# Altium footprint library PCB1.PcbLib: 24 footprints (part 1 of 2)
Each footprint in its own frame and in the unit in brackets; x right, y up, seen from the top. Pads: shape width x height; smd on the part's side, far side on the other; paste and mask are expansions set on the pad; w line width, h text height; cw(c..) or ccw(c..) is an arc to the next point about the centre after c.
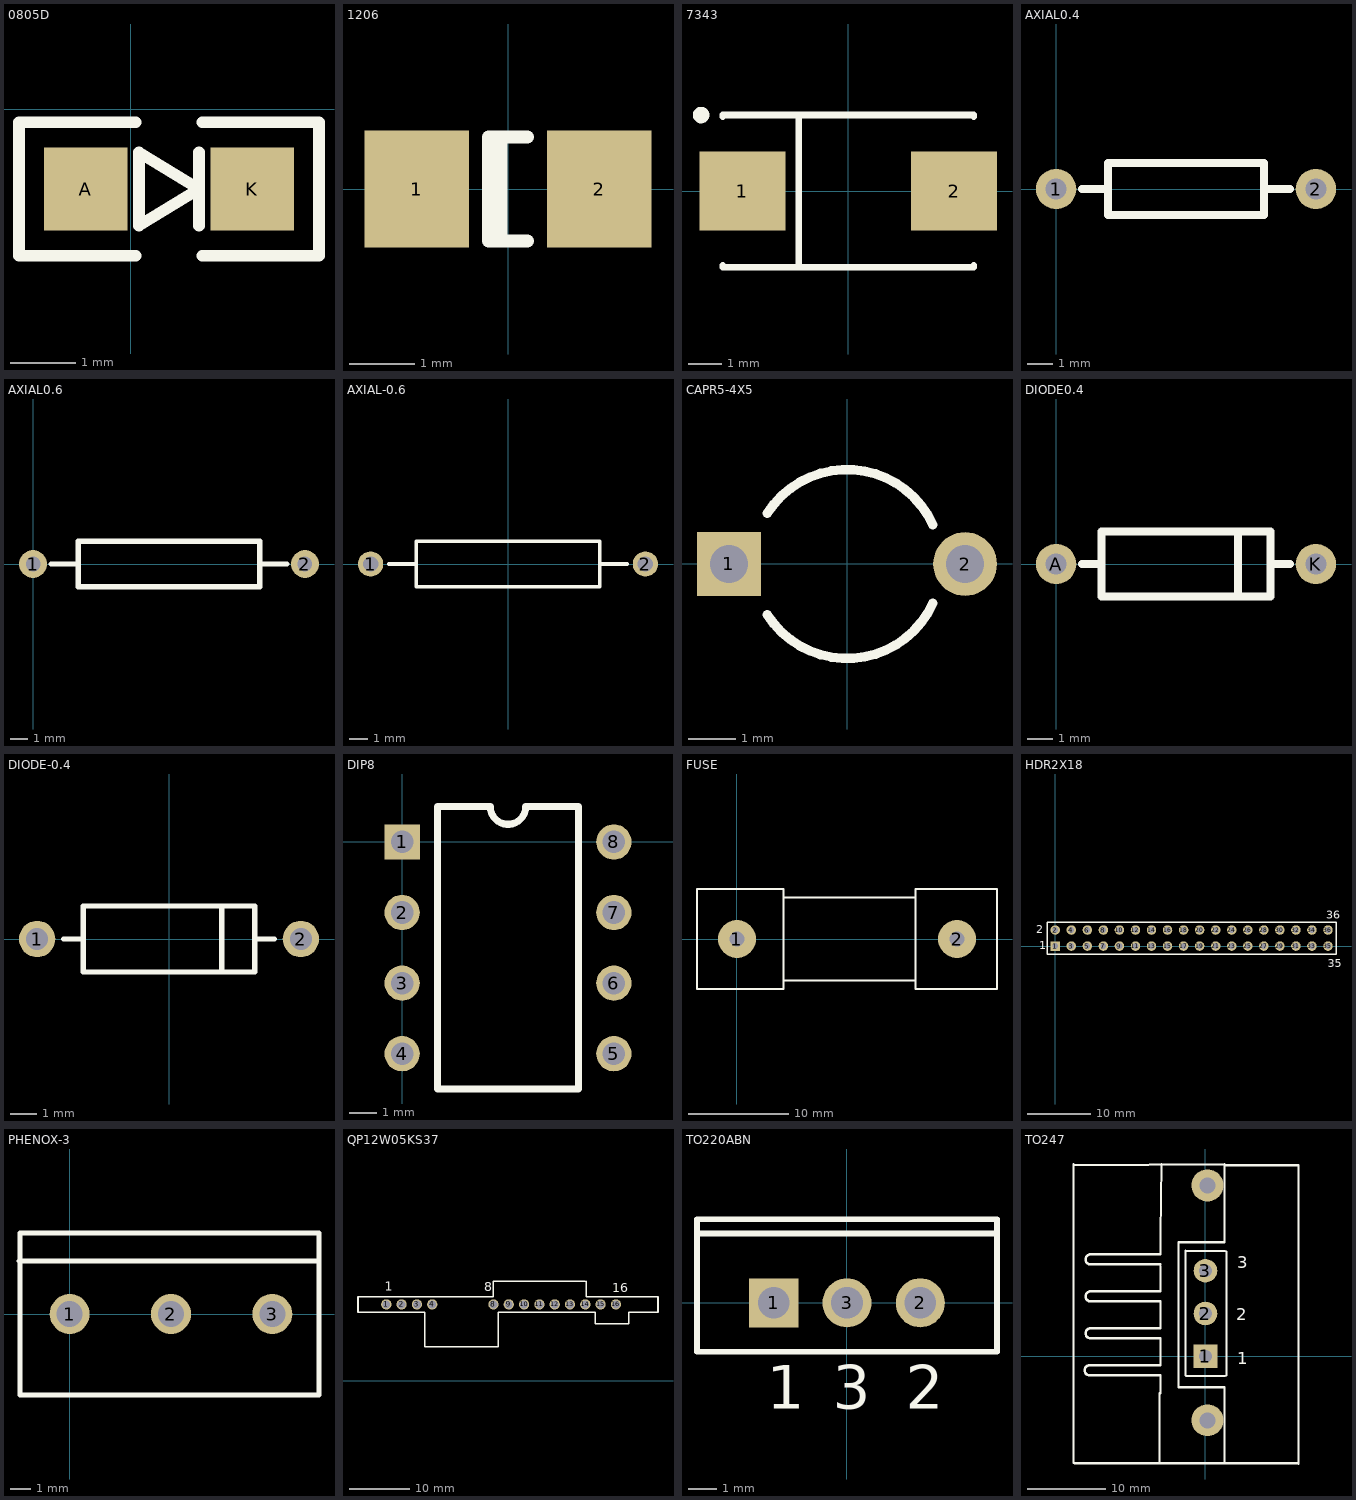
[diagram p0: the footprints below, top view; thin cyan lines are the x and y axes]

## 0805D [mil]
pads (2):
  rect 50x50 smd: A(-27,-48) K(73,-48)
Top Overlay:
  lines w7: 3,-88 -67,-88 -67,-8 3,-8 ; 41,-70 41,-48 ; 41,-26 41,-48 ; 43,-88 113,-88 113,-8 43,-8 ; 41,-48 5,-70 5,-48 5,-26 41,-48

## 1206 [mm] "Chip Capacitor; Body 3.2 x 1.6 mm (LxW typ)"
height 1.5
pads (2):
  rect 1.6x1.8 smd: 1(-1.4,0) 2(1.4,0)
Top Overlay:
  lines w0.2: -0.11,-0.8 -0.11,0.8 ; 0.3,-0.8 -0.3,-0.8 -0.3,0.8 0.3,0.8

## 7343 [mm] "Capacitor, SM Tantalum; Body 7.3 x 4.3 mm (LxW typ)"
height 3.7
pads (2):
  rect 2.6x2.4 smd: 1(-3.2,0) 2(3.2,0)
Top Overlay:
  circle w0.25: c-4.45,2.3 r0.125
  lines w0.2: -3.8,-2.25 -3.8,-2.3 3.8,-2.3 3.8,-2.25 ; -3.8,2.25 -3.8,2.3 3.8,2.3 3.8,2.25 ; -1.5,-2.3 -1.5,2.3

## AXIAL0.4 [mil]
pads (2):
  round 62 hole 32: 1(0,0) 2(400,0)
Top Overlay:
  lines w12: 40,0 80,0 ; 320,0 360,0 ; 80,-40 80,40 320,40 320,-40 80,-40

## AXIAL0.6 [mil]
pads (2):
  round 62 hole 32: 1(0,0) 2(600,0)
Top Overlay:
  lines w12: 40,0 100,0 ; 500,0 560,0 ; 100,-50 500,-50 500,50 100,50 100,-50

## AXIAL-0.6 [mm] "Axial Device, Thru-Hole; 2 Leads; 0.6 in Pin Spacing"
height 2.54
pads (2):
  round 1.4 hole 0.85: 1(-7.62,0) 2(7.62,0)
Top Overlay:
  lines w0.2: -6.604,0 -5.08,0 ; 5.08,0 6.604,0 ; -5.08,-1.27 -5.08,1.27 5.08,1.27 5.08,-1.27 -5.08,-1.27

## CAPR5-4X5 [mm] "Capacitor; 2 Leads"
height 12
pads (2):
  rect 1.35x1.35 hole 0.8: 1(-2.5,0)
  round 1.35 hole 0.8: 2(2.5,0)
Top Overlay:
  lines w0.2: -1.687,-1.075 ccw(c0,0) 1.819,-0.832 ; -1.687,1.075 cw(c0,0) 1.819,0.832

## DIODE0.4 [mil]
pads (2):
  round 62 hole 32: A(0,0) K(400,0)
Top Overlay:
  lines w12: 40,0 70,0 ; 280,-50 280,50 ; 330,0 360,0 ; 70,-50 330,-50 330,50 70,50 70,-50

## DIODE-0.4 [mm] "Diode, Thru-Hole; 2 Leads; 0.4 in Pin Spacing"
height 2.54
pads (2):
  round 1.4 hole 0.85: 1(-5.08,0) 2(5.08,0)
Top Overlay:
  lines w0.2: -4.064,0 -3.302,0 ; 2.032,-1.27 2.032,1.27 ; 3.302,0 4.064,0 ; -3.302,-1.27 -3.302,1.27 3.302,1.27 3.302,-1.27 -3.302,-1.27

## DIP8 [mil]
pads (8):
  rect 50x50 hole 32: 1(0,0)
  round 50 hole 32: 2(0,-100) 3(0,-200) 4(0,-300) 5(300,-300) 6(300,-200) 7(300,-100) 8(300,0)
Top Overlay:
  lines w10: 50,-350 50,50 125,50 ccw(c150,50) 175,50 250,50 250,-350 50,-350

## FUSE [mm]
pads (2):
  round 3.81 hole 1.5: 1(0,0) 2(22,0)
Top Overlay:
  lines w0.203: 4.636,-4.136 17.844,-4.136 ; 4.636,4.136 17.844,4.136 ; -4,-5 4.636,-5 4.636,5 -4,5 -4,-5 ; 17.844,-5 26,-5 26,5 17.844,5 17.844,-5

## HDR2X18 [mm] "Connector; Header; 18x2 Position"
pads (36):
  rect 1.5x1.5 hole 0.9: 1(0,0)
  round 1.5 hole 0.9: 2(0,2.54) 3(2.54,0) 4(2.54,2.54) 5(5.08,0) 6(5.08,2.54) 7(7.62,0) 8(7.62,2.54) 9(10.16,0) 10(10.16,2.54) 11(12.7,0) 12(12.7,2.54) 13(15.24,0) 14(15.24,2.54) 15(17.78,0) 16(17.78,2.54) 17(20.32,0) 18(20.32,2.54) 19(22.86,0) 20(22.86,2.54) 21(25.4,0) 22(25.4,2.54) 23(27.94,0) 24(27.94,2.54) 25(30.48,0) 26(30.48,2.54) 27(33.02,0) 28(33.02,2.54) 29(35.56,0) 30(35.56,2.54) 31(38.1,0) 32(38.1,2.54) 33(40.64,0) 34(40.64,2.54) 35(43.18,0) 36(43.18,2.54)
Top Overlay:
  lines w0.2: -1.27,-1.27 -1.27,3.81 44.45,3.81 44.45,-1.27 -1.27,-1.27
  text "2" at -3.048,2.032 h1.27
  text "1" at -2.54,-0.508 h1.27
  text "35" at 43.135,-3.324 h1.27
  text "36" at 42.881,4.296 h1.27

## PHENOX-3 [mm]
pads (3):
  round 2 hole 1.3: 1(0,0) 2(5.08,0) 3(10.16,0)
Top Overlay:
  lines w0.254: -2.54,2.667 12.5,2.667 ; -2.5,-4.064 -2.5,4.064 ; -2.5,-4.05 12.5,-4.05 ; -2.5,4.05 12.5,4.05 ; 12.5,-4.064 12.5,4.064

## QP12W05KS37 [mm] "IGBT Drive"
pads (13):
  round 1.7 hole 1.3: 1(8.89,12.7) 2(11.43,12.7) 3(13.97,12.7) 4(16.51,12.7) 8(26.67,12.7) 9(29.21,12.7) 10(31.75,12.7) 11(34.29,12.7) 12(36.83,12.7) 13(39.37,12.7) 14(41.91,12.7) 15(44.45,12.7) 16(46.99,12.7)
Top Overlay:
  lines w0.254: 41.91,16.51 26.67,16.51 26.67,13.97 4.191,13.97 4.191,11.43 15.24,11.43 15.24,5.715 27.432,5.715 27.432,11.43 43.561,11.43 43.561,9.525 49.149,9.525 49.149,11.43 53.975,11.43 53.975,13.97 42.037,13.97 42.037,16.51
  text "1" at 8.636,14.986 h1.52
  text "8" at 25.146,14.859 h1.52
  text "16" at 46.355,14.732 h1.52

## TO220ABN [mm] "TO, Thru-Hole, Vertical, Heatsink Mounted; 3 In-Line Leads; Pitch 2.54 mm; Pin sequence 1, 3, 2"
height 19.7
pads (3):
  rect 1.7x1.7 hole 1.1: 1(-2.54,0)
  round 1.7 hole 1.1: 2(2.54,0) 3(0,0)
Top Overlay:
  lines w0.2: -5.2,2.4 5.2,2.4 ; -5.2,-1.7 5.2,-1.7 5.2,2.9 -5.2,2.9 -5.2,-1.7
  text "3" at -0.5,-3.675 h1.5
  text "2" at 2.04,-3.675 h1.5
  text "1" at -2.79,-3.675 h1.5

## TO247 [mm]
pads (5):
  rect 3x3 hole 1.6: 1(0,0)
  round 3 hole 1.6: 2(0,5.44) 3(0,10.88)
  round 4.064 hole 2.032: ""(0.254,-8.128) ""(0.254,21.717)
Top Overlay:
  lines w0.254: -16.764,-13.56 -16.764,24.44 ; -2.54,-2.413 -2.54,13.462 ; -2.5,-2.5 2.5,-2.5 ; -2.5,13.38 2.5,13.38 ; 2.667,-2.413 2.667,13.335 ; 11.811,-13.687 11.811,24.313
  lines w0.305: -16.764,24.257 2.413,24.384 2.413,14.478 -3.429,14.478 -3.429,-3.937 2.413,-3.937 2.413,-13.589 -16.637,-13.589 ; -14.732,-2.413 cw(c-14.732,-1.778) -14.732,-1.143 -5.715,-1.143 -5.715,2.286 -14.605,2.286 cw(c-14.605,2.921) -14.605,3.556 -5.715,3.556 -5.715,6.985 -14.605,6.985 cw(c-14.605,7.62) -14.605,8.255 -5.715,8.255 -5.715,11.43 ; -14.732,12.954 -5.715,12.954 -5.715,15.494 -5.588,24.384 ; -14.605,-2.413 -5.842,-2.413 ; -14.605,12.954 ccw(c-14.605,12.319) -14.605,11.684 -5.715,11.684 ; -5.842,-13.335 -5.842,-4.699 ; -5.715,-4.699 -5.715,-2.413 ; 2.286,-13.589 11.78,-13.589 ; 2.413,24.257 11.78,24.257
  text "1" at 4.064,-1.016 h1.52
  text "2" at 3.937,4.572 h1.52
  text "3" at 4.064,11.176 h1.52